# Altium schematic symbol library C3662799.SchLib: 1 symbol
Pins are listed as number, name and electrical type; pins without a type are passive.

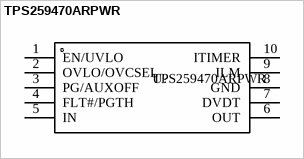
[diagram p0: symbol TPS259470ARPWR]

## TPS259470ARPWR
designator U?
Surge Protection IC 2.7V~23V QFN-10(2x2)
footprint VQFN-10_L2.0-W2.0-P0.45-TL (Surge Protection IC 2.7V~23V QFN-10(2x2))
pins: 1 EN/UVLO, 2 OVLO/OVCSEL, 3 PG/AUXOFF, 4 FLT#/PGTH, 5 IN, 6 OUT, 7 DVDT, 8 GND, 9 ILM, 10 ITIMER